# EAGLE library part M20-7910842R (library mbed-HDK-Connector)
Pin Header x8 SMD Right Angle
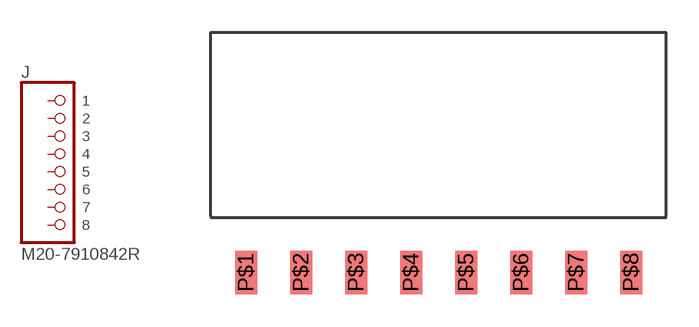
[diagram p15: symbol with the pads of M20-7910842R; footprint M20-7910842R]

Designator prefix J

## M20-7910842R (MF: Harwin Inc.; MFN: M20-7910842R; OC-DIGIKEY: 952-3200-1-ND; OC-MOUSER: 855-M20-7910842R)  [M20-7910842R]
P$1  1  pas
P$2  2  pas
P$3  3  pas
P$4  4  pas
P$5  5  pas
P$6  6  pas
P$7  7  pas
P$8  8  pas

## Footprint M20-7910842R (pad centres in mm)
smd 1.02 x 2: P$1 0,0; P$2 2.54,0; P$3 5.08,0; P$4 7.62,0; P$5 10.16,0; P$6 12.7,0; P$7 15.24,0; P$8 17.78,0